# EAGLE library part 665308124022 (library Wurth_Connectors_WR-WTB)
WR-WTB 1.00 mm SMT Male Vertical Shrouded Header KIND PROPERTIES: Pitch:1 mm Gender:Male MATERIAL PROPERTIES: Insulator Material :PA46 Insulator Flammability Rating:UL94 V-0 Color:Beige Contact Material:Phosphor Bronze Contact Plating:Tin Contact Type:Stamped GENERAL INFORMATION Operating Temperature:-25 up to +85 °C Compliance: RoHS Working Voltage:50 V (AC) Withstanding Voltage:500 V (AC) Contact Resistance:20 mΩ RISO:100MΩ CERTIFICATION UL Approval:E323964 PACKAGING PROPERTIES Packaging:Tape and Reel with Cap <https://katalog.we-online.com/media/images/v2/o58873v209%20Family_WR-WTB_SMT_Male_Vertical_Shrouded_Header_6653xx124022.jpg> Details see: https://katalog.we-online.com/en/em/WTB_1_00_SMT_MALE_VERTICAL_SHROUDED_HEADER_6653XX124022 Updated by Yingchun,Shan 2019-11-11 2019 (C) Würth Elektronik
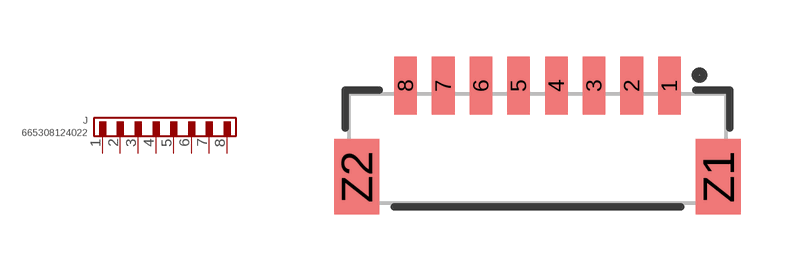
[diagram p89: symbol with the pads of 665308124022; footprint 665308124022]

Designator prefix J

## 665308124022 (CONTACT-RESISTANCE: 20mOhm; DATASHEET-URL: https://www.we-online.com/redexpert/spec/665308124022?ae; GENDER: Male; IR: 1A; L: 10mm; MOUNT: SMT; PACKAGING: Tape and Reel with Cap; PART-NUMBER: 665308124022; PCB-CABLE-PANEL: PCB; PINS: 8; PITCH: 1mm; TYPE: Vertical; VALUE: 665308124022; WORKING-VOLTAGE: 50V(AC))  [665308124022]
1  1  pas
2  2  pas
3  3  pas
4  4  pas
5  5  pas
6  6  pas
7  7  pas
8  8  pas

## Footprint 665308124022 (pad centres in mm)
WR-WTB 1.00 mm SMT Male Vertical Shrouded Header, 8 pins
smd 0.6 x 1.55: 1 3.5,1.725; 2 2.5,1.725; 3 1.5,1.725; 4 0.5,1.725; 5 -0.5,1.725; 6 -1.5,1.725; 7 -2.5,1.725; 8 -3.5,1.725
smd 1.2 x 2: Z1 4.8,-0.7; Z2 -4.8,-0.7